# Altium footprint library ECG.PcbLib: 1 footprints
Each footprint in its own frame and in the unit in brackets; x right, y up, seen from the top. Pads: shape width x height; smd on the part's side, far side on the other; paste and mask are expansions set on the pad; w line width, h text height; cw(c..) or ccw(c..) is an arc to the next point about the centre after c.
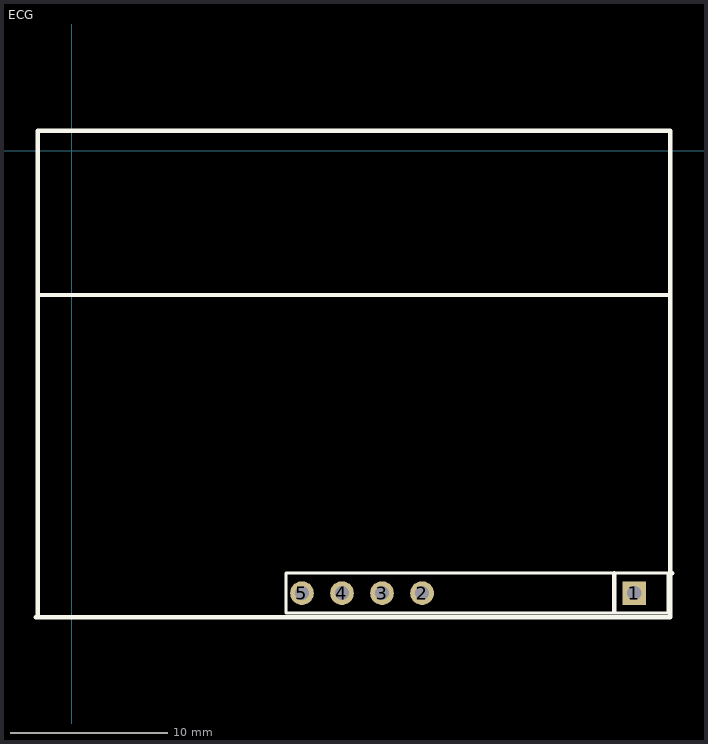
[diagram p0: the footprint, top view; thin cyan lines are the x and y axes]

## ECG [mm]
pads (5):
  rect 1.5x1.5 hole 0.9: 1(35.687,-28.067)
  round 1.5 hole 0.9: 2(22.225,-28.067) 3(19.685,-28.067) 4(17.145,-28.067) 5(14.605,-28.067)
Top Overlay:
  lines w0.2: 13.589,-29.337 13.589,-26.797 37.846,-26.797 37.846,-29.337 13.589,-29.337
  lines w0.278: -2.286,-29.591 37.973,-29.591 37.973,1.27 -2.159,1.27 -2.159,-29.464 ; -2.159,-9.144 37.973,-9.144 ; 34.417,-29.21 34.417,-26.797 ; 37.973,-26.924 38.1,-26.797